# EAGLE library part ATM90E36_ATM90E36 (library ATM90E36_Breakout)
ATMEL Poly-phase energy metering
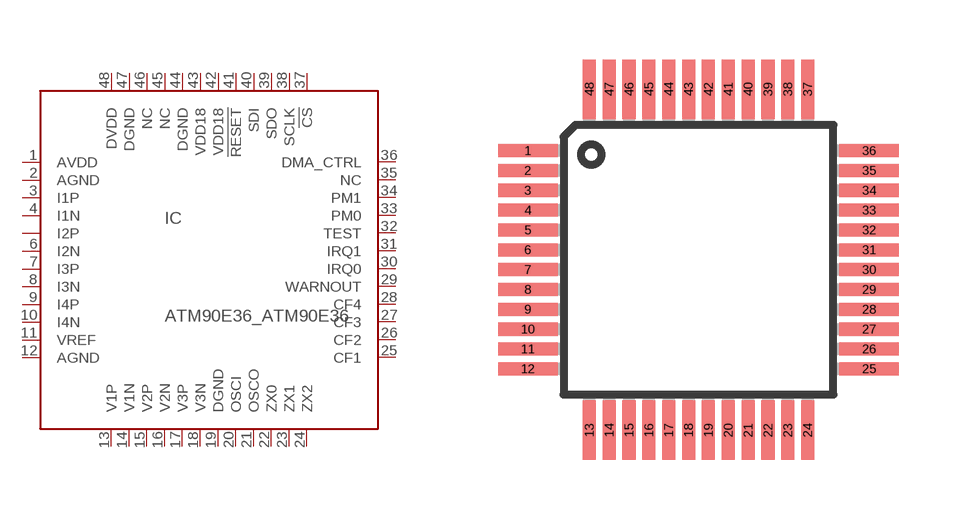
[diagram p0: symbol with the pads of ATM90E36_TQFP48; footprint ATM90E36_TQFP48]

Designator prefix IC

## ATM90E36_ATM90E36 (OC_FARNELL: unknown; OC_NEWARK: unknown)  [ATM90E36_TQFP48]
1  AVDD  pwr
2  AGND  pwr
3  I1P  in
4  I1N  in
5  I2P  in
6  I2N  in
7  I3P  in
8  I3N  in
9  I4P  in
10  I4N  in
11  VREF
12  AGND  pwr
13  V1P  in
14  V1N  in
15  V2P  in
16  V2N  in
17  V3P  in
18  V3N  in
19  DGND  pwr
20  OSCI  in
21  OSCO  out
22  ZX0  out
23  ZX1  out
24  ZX2  out
25  CF1  out
26  CF2  out
27  CF3  out
28  CF4  out
29  WARNOUT  out
30  IRQ0  out
31  IRQ1  out
32  TEST  pwr
33  PM0  in
34  PM1  in
35  NC  nc
36  DMA_CTRL  in
37  !CS  in
38  SCLK  in
39  SDO  out
40  SDI  in
41  !RESET  in
42  VDD18  pwr
43  VDD18  pwr
44  DGND  pwr
45  NC  nc
46  NC  nc
47  DGND  pwr
48  DVDD  pwr

## Footprint ATM90E36_TQFP48 (pad centres in mm)
THIN QUAD FLAT PACK
smd 1.499 x 0.33: 1 -4.3,2.75; 2 -4.3,2.25; 3 -4.3,1.75; 4 -4.3,1.25; 5 -4.3,0.75; 6 -4.3,0.25; 7 -4.3,-0.25; 8 -4.3,-0.75; 9 -4.3,-1.25; 10 -4.3,-1.75; 11 -4.3,-2.25; 12 -4.3,-2.75; 25 4.3,-2.75; 26 4.3,-2.25; 27 4.3,-1.75; 28 4.3,-1.25; 29 4.3,-0.75; 30 4.3,-0.25; 31 4.3,0.25; 32 4.3,0.75; 33 4.3,1.25; 34 4.3,1.75; 35 4.3,2.25; 36 4.3,2.75
smd 0.33 x 1.499: 13 -2.75,-4.3; 14 -2.25,-4.3; 15 -1.75,-4.3; 16 -1.25,-4.3; 17 -0.75,-4.3; 18 -0.25,-4.3; 19 0.25,-4.3; 20 0.75,-4.3; 21 1.25,-4.3; 22 1.75,-4.3; 23 2.25,-4.3; 24 2.75,-4.3; 37 2.75,4.3; 38 2.25,4.3; 39 1.75,4.3; 40 1.25,4.3; 41 0.75,4.3; 42 0.25,4.3; 43 -0.25,4.3; 44 -0.75,4.3; 45 -1.25,4.3; 46 -1.75,4.3; 47 -2.25,4.3; 48 -2.75,4.3